# EAGLE library part CD4043 (library display)
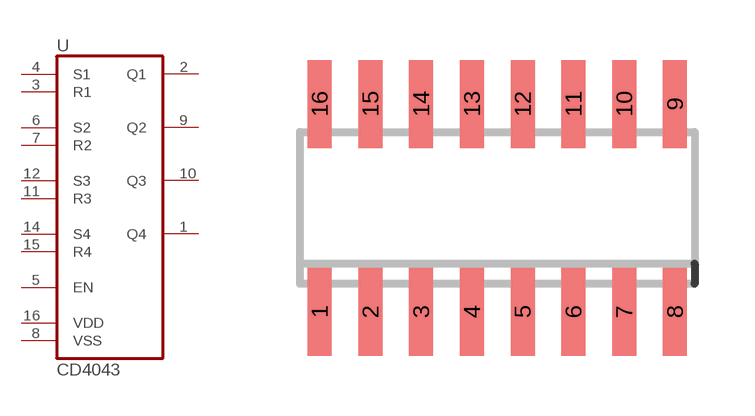
[diagram p1: symbol with the pads of SOIC16N; footprint SOIC16N]

Designator prefix -

## CD4043  [SOIC16N]
1  Q4  out
2  Q1  out
3  R1  in
4  S1  in
5  EN  in
6  S2  in
7  R2  in
8  VSS
9  Q2  out
10  Q3  out
11  R3  in
12  S3  in
14  S4  in
15  R4  in
16  VDD

## Footprint SOIC16N (pad centres in mm)
SMALL OUTLINE INTEGRATED CIRCUIT
smd 0.6 x 2.2: 1 -4.445,-2.6; 2 -3.175,-2.6; 3 -1.905,-2.6; 4 -0.635,-2.6; 5 0.635,-2.6; 6 1.905,-2.6; 7 3.175,-2.6; 8 4.445,-2.6; 9 4.445,2.6; 10 3.175,2.6; 11 1.905,2.6; 12 0.635,2.6; 13 -0.635,2.6; 14 -1.905,2.6; 15 -3.175,2.6; 16 -4.445,2.6